# Altium footprint library Optocouplers.PcbLib: 2 footprints
Each footprint in its own frame and in the unit in brackets; x right, y up, seen from the top. Pads: shape width x height; smd on the part's side, far side on the other; paste and mask are expansions set on the pad; w line width, h text height; cw(c..) or ccw(c..) is an arc to the next point about the centre after c.
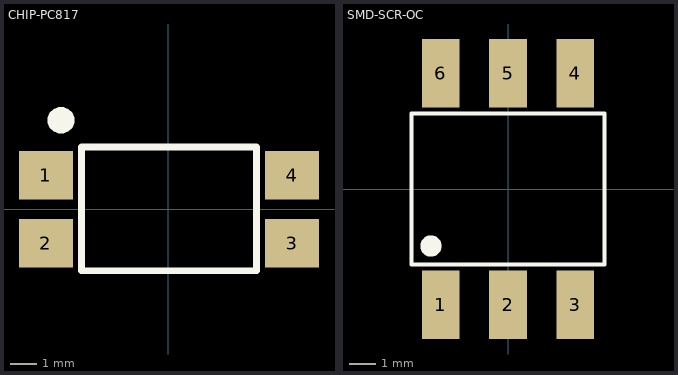
[diagram p0: the footprints below, top view; thin cyan lines are the x and y axes]

## CHIP-PC817 [mm] "Optocoupler"
pads (4):
  rect 2x1.8 smd: 1(-4.55,1.27) 2(-4.55,-1.27) 3(4.6,-1.27) 4(4.6,1.27)
Top Overlay:
  region: -4.473,3.302 -4.473,3.205 -4.399,3.027 -4.262,2.891 -4.083,2.817 -3.89,2.817 -3.711,2.891 -3.575,3.028 -3.501,3.207 -3.501,3.4 -3.575,3.578 -3.711,3.715 -3.89,3.789 -4.083,3.79 -4.262,3.716 -4.399,3.58 -4.473,3.401 -4.473,3.305
  lines w0.254: -3.225,-2.286 -3.225,2.314 3.275,2.314 3.275,-2.286 -3.225,-2.286
3D body "User Library-PC817_Gullwing.STEP": height 3.85, standoff 0, extent -5.05,-2.29 4.95,2.29

## SMD-SCR-OC [mm] "SMD-6_L7.3-W6.5-P2.54-LS10.2-BL"
pads (6):
  rect 1.422x2.6 smd: 1(-2.54,-4.38) 2(0,-4.38) 3(2.54,-4.38) 4(2.54,4.38) 5(0,4.38) 6(-2.54,4.38)
Top Overlay:
  circle w0.4: c-2.921,-2.159 r0.2
  lines w0.152: -3.646,-2.851 -3.646,2.851 3.646,2.851 3.646,-2.851 -3.646,-2.851
3D body "SMD-6P.step": height 3.55, standoff -0.01, extent -3.66,-5.1 3.65,5.1